# EAGLE library part M6387-16 (library _mtvl_ic)
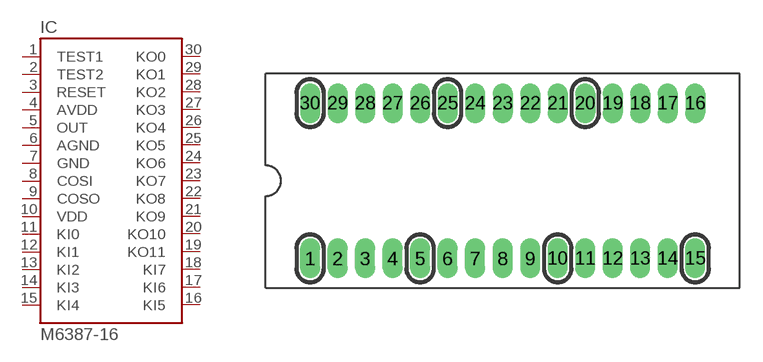
[diagram p53: symbol with the pads of DIP-30_OKI; footprint DIP-30_OKI]

Designator prefix IC

## M6387-16  [DIP-30_OKI]
1  TEST1
2  TEST2
3  RESET
4  AVDD
5  OUT
6  AGND
7  GND
8  COSI
9  COSO
10  VDD
11  KI0
12  KI1
13  KI2
14  KI3
15  KI4
16  KI5
17  KI6
18  KI7
19  KO11
20  KO10
21  KO9
22  KO8
23  KO7
24  KO6
25  KO5
26  KO4
27  KO3
28  KO2
29  KO1
30  KO0

## Footprint DIP-30_OKI (pad centres in mm)
Unverified!!!
drill 0.8 long: 1 -12.6,-5.08; 2 -10.8,-5.08; 3 -9,-5.08; 4 -7.2,-5.08; 5 -5.4,-5.08; 6 -3.6,-5.08; 7 -1.8,-5.08; 8 0,-5.08; 9 1.8,-5.08; 10 3.6,-5.08; 11 5.4,-5.08; 12 7.2,-5.08; 13 9,-5.08; 14 10.8,-5.08; 15 12.6,-5.08; 16 12.6,5.08; 17 10.8,5.08; 18 9,5.08; 19 7.2,5.08; 20 5.4,5.08; 21 3.6,5.08; 22 1.8,5.08; 23 0,5.08; 24 -1.8,5.08; 25 -3.6,5.08; 26 -5.4,5.08; 27 -7.2,5.08; 28 -9,5.08; 29 -10.8,5.08; 30 -12.6,5.08